# Altium footprint library adafruit.PCBLIB: 643 footprints (part 28 of 41)
Each footprint in its own frame and in the unit in brackets; x right, y up, seen from the top. Pads: shape width x height; smd on the part's side, far side on the other; paste and mask are expansions set on the pad; w line width, h text height; cw(c..) or ccw(c..) is an arc to the next point about the centre after c.
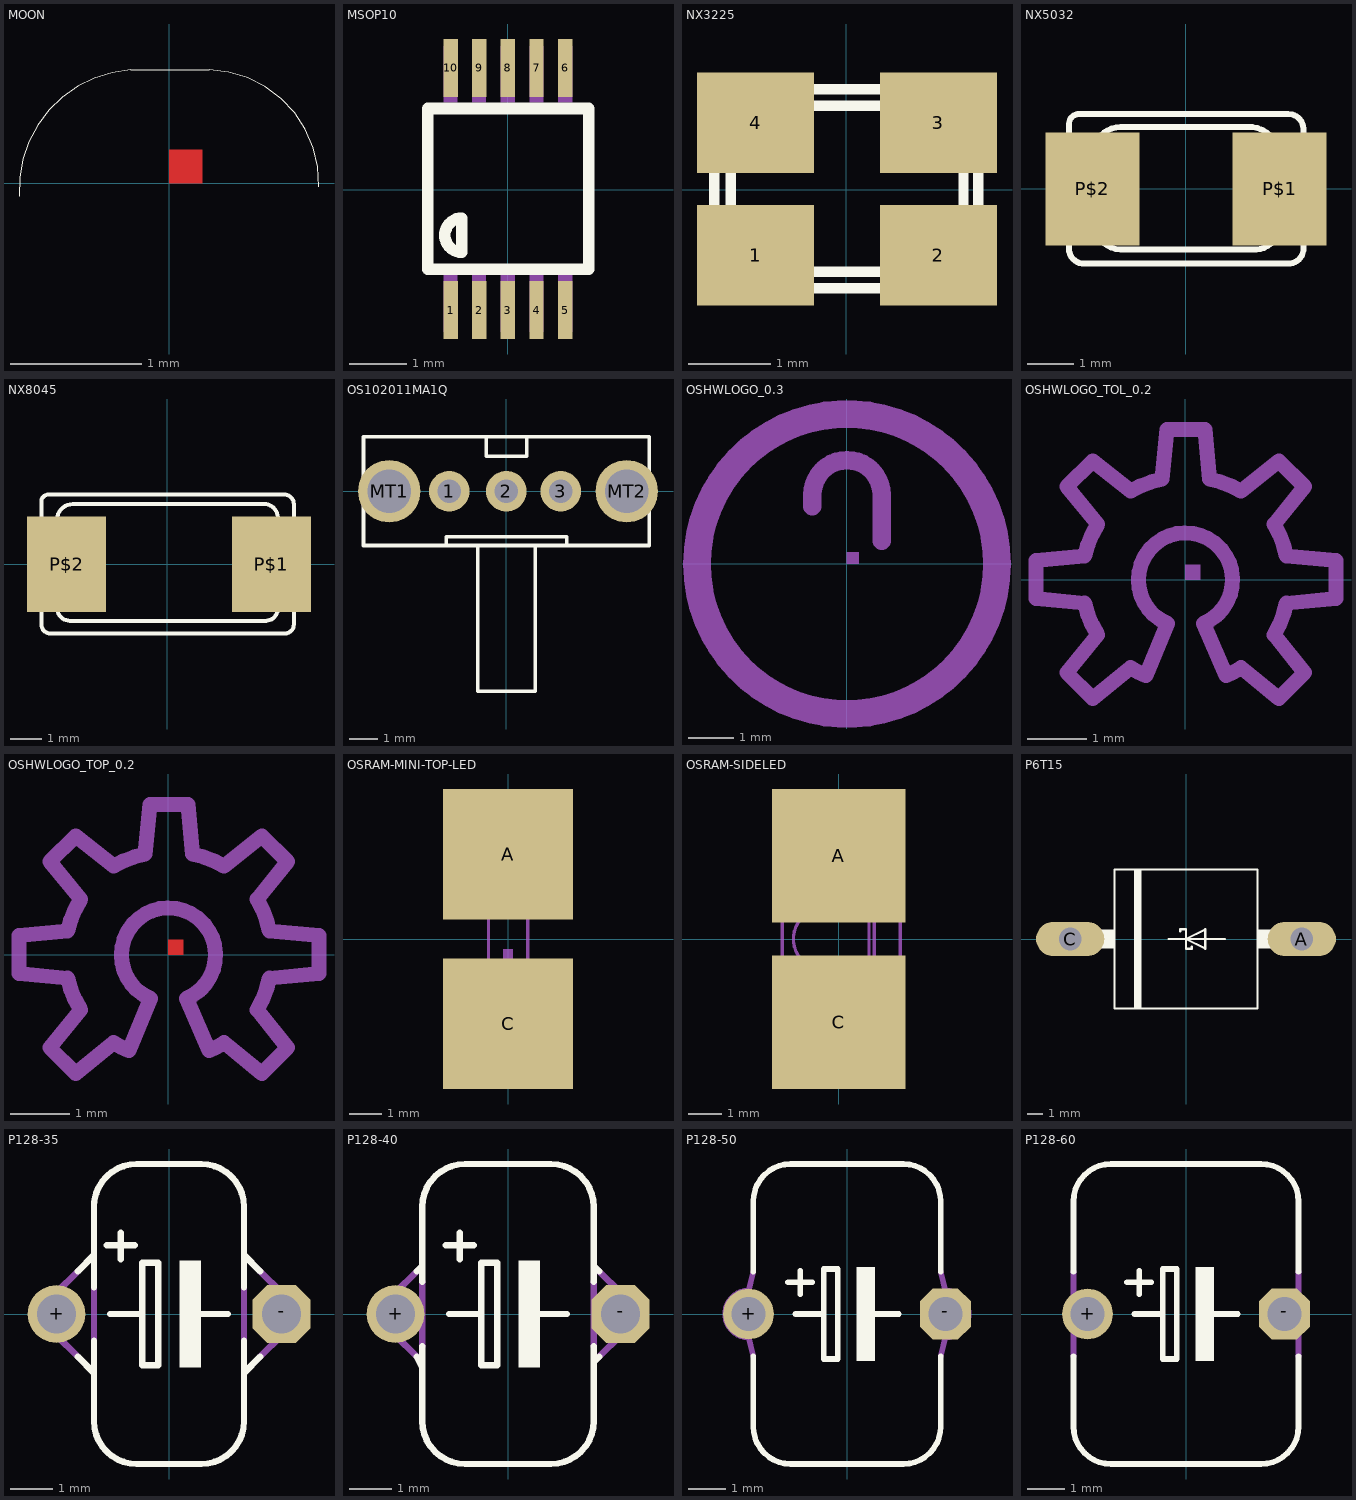
[diagram p27: the footprints below, top view; thin cyan lines are the x and y axes]

## MOON [mil]
Top Layer:
  region: 0,0 10,0 10,10 0,10
Top Overlay:
  lines w0: -45,-4 cw(c-9.25,-1.75) -11.5,34 12,34 cw(c10.99,-0.01) 45,-1

## MSOP10 [mil]
pads (10):
  rect 10x40 smd: 1(-39.37,-83.19) 2(-19.68,-83.19) 3(0,-83.19) 4(20,-83.19) 5(40,-83.19) 6(40,84) 7(20,84) 8(0,84) 9(-19.68,84) 10(-39.37,84)
Top Overlay:
  lines w8: -55.12,-55.12 56,-55.12 56,56 -55.12,56 -55.12,-55.12 ; -31.5,-43.31 cw(c-31.5,-31.5) -31.5,-19.68 -31.5,-43.31
Courtyard Bottom:
  rectangle: -44.27,-98.43 -34.43,-59.06
  rectangle: -24.58,-98.43 -14.74,-59.06
  rectangle: -4.9,-98.43 5,-59.06
  rectangle: 15,-98.43 25,-59.06
  rectangle: 35,-98.43 45,-59.06
  region: 45,99 35,99 35,60 45,60
  region: 25,99 15,99 15,60 25,60
  region: 5,99 -4.94,99 -4.94,60 5,60
  region: -14.79,99 -24.63,99 -24.63,60 -14.79,60
  region: -34.47,99 -44.31,99 -44.31,60 -34.47,60

## NX3225 [mil]
pads (4):
  rect 56x48 smd: 1(-43.31,-31.5) 2(44,-31.5) 3(44,32) 4(-43.31,32)
Top Overlay:
  lines w5: -62.99,-47.24 -62.99,48 63,48 63,-47.24 -62.99,-47.24 ; -55.12,-26.87 ccw(c-42.62,-26.87) -42.62,-39.37 43,-39.37 ccw(c43.25,-26.62) 56,-26.87 56,27 ccw(c43,27) 43,40 -42.62,40 ccw(c-42.37,27.25) -55.12,27 -55.12,-26.87

## NX5032 [mil]
pads (2):
  rect 79x95 smd: P$1(79,0) P$2(-78.74,0)
Top Overlay:
  lines w5: -98.43,-47.92 ccw(c-85.32,-49.89) -87.29,-62.99 88,-62.99 ccw(c85.96,-49.96) 99,-47.92 99,51 ccw(c86.5,50.5) 86,63 -89.62,63 ccw(c-90.02,54.6) -98.43,55 -98.43,-47.92 ; -78.74,-27.56 ccw(c-53.15,-25.59) -51.18,-51.18 56,-51.18 ccw(c57.66,-29.84) 79,-31.5 79,24 ccw(c53.49,26.49) 56,52 -55.12,52 ccw(c-54.93,28.19) -78.74,28 -78.74,-27.56

## NX8045 [mil]
pads (2):
  rect 99x119 smd: P$1(130,0) P$2(-125.98,0)
Top Overlay:
  lines w5: -157.48,-75.48 ccw(c-146.35,-75.48) -146.35,-86.61 147,-86.61 ccw(c146.93,-75.55) 158,-75.48 158,75 ccw(c146,75) 146,87 -148.68,87 ccw(c-148.58,78.1) -157.48,78 -157.48,-75.48 ; -137.8,-55.12 ccw(c-122.05,-55.12) -122.05,-70.87 123,-70.87 ccw(c122.63,-55.49) 138,-55.12 138,56 ccw(c121,58) 123,75 -118.11,75 ccw(c-118.45,55.66) -137.8,56 -137.8,-55.12

## OS102011MA1Q [mil]
pads (5):
  round 56 hole 32: 1(-78.74,0) 2(0,0) 3(75,0)
  round 86 hole 60: MT1(-161.42,0) MT2(166,0)
Top Overlay:
  lines w5: -82.68,-74.8 -39.37,-74.8 ; -82.68,-74.8 -196.85,-74.8 -196.85,75 -27.56,75 ; -82.68,-74.8 -82.68,-62.99 83,-62.99 83,-74.8 ; -39.37,-74.8 40,-74.8 ; -39.37,-74.8 -39.37,-275.59 40,-275.59 40,-74.8 ; -27.56,75 28,75 ; -27.56,75 -27.56,48 28,48 28,75 ; 28,75 197,75 197,-74.8 83,-74.8 ; 40,-74.8 83,-74.8

## OSHWLOGO_0.3 [mil]
Courtyard Bottom:
  circle w24: c0,0 r130
  region: 0,0 10,0 10,10 0,10
  lines w16: -30,50 -30,60 cw(c0,60) 0,90 cw(c0,60) 30,60 30,20

## OSHWLOGO_TOL_0.2 [mil]
Courtyard Bottom:
  region: 0,0 10,0 10,10 0,10
  lines w10: -99.26,-12.19 -99.26,13 -66.99,16 cw(c0.09,0.55) -58.3,37 -78.8,62 -61.57,79 -36.43,59 cw(c-2.05,0.35) -15.46,67 -12.19,100 13,100 16,67 cw(c2.6,0.26) 37,59 62,79 79,62 59,37 cw(c0.26,2.6) 67,16 100,13 100,-12.19 67,-15.46 cw(c0.35,-2.05) 59,-36.43 79,-61.57 62,-78.8 37,-58.3 cw(c0.61,-0.74) 27,-63.52 12,-28.87 ccw(c0.02,0.01) -31.25,0 ccw(c0,0) -11.96,-28.87 -26.31,-63.52 cw(c0.02,-0.01) -36.43,-58.3 -61.57,-78.8 -78.8,-61.57 -58.3,-36.43 cw(c0,0) -66.99,-15.46 -99.26,-12.19

## OSHWLOGO_TOP_0.2 [mil]
Top Layer:
  region: 0,0 10,0 10,10 0,10
Courtyard Bottom:
  lines w10: -99.26,-12.19 -99.26,13 -66.99,16 cw(c0.09,0.55) -58.3,37 -78.8,62 -61.57,79 -36.43,59 cw(c-2.05,0.35) -15.46,67 -12.19,100 13,100 16,67 cw(c2.6,0.26) 37,59 62,79 79,62 59,37 cw(c0.26,2.6) 67,16 100,13 100,-12.19 67,-15.46 cw(c0.35,-2.05) 59,-36.43 79,-61.57 62,-78.8 37,-58.3 cw(c0.61,-0.74) 27,-63.52 12,-28.87 ccw(c0.02,0.01) -31.25,0 ccw(c0,0) -11.96,-28.87 -26.31,-63.52 cw(c0.02,-0.01) -36.43,-58.3 -61.57,-78.8 -78.8,-61.57 -58.3,-36.43 cw(c0,0) -66.99,-15.46 -99.26,-12.19

## OSRAM-MINI-TOP-LED [mil]
pads (2):
  rect 158x158 smd: A(0,103) C(0,-102.36)
Top Overlay:
  text "A" at -25,75 h77.5
  text "C" at -25,-125 h77.5
Top Paste:
  rectangle: -19.68,24 20,56
  rectangle: -19.68,-55.12 20,-23.62
  rectangle: -17.72,26 18,54
  rectangle: -17.72,-53.15 18,-25.59
Courtyard Bottom:
  rectangle: -5.91,-23.62 6,-11.81
  lines w4: -17.72,38 -17.72,44 18,44 18,38 ; 18,-37.4 18,-43.31 -17.72,-43.31 -17.72,-35.43 -15.75,-35.43 ; -15.75,-35.43 24,-35.43 24,36 -23.62,36 -23.62,-27.56 -15.75,-35.43

## OSRAM-SIDELED [mil]
pads (2):
  rect 158x158 smd: A(0,99) C(0,-98.43)
Top Overlay:
  text "C" at 25,-125 h77.5
  text "A" at 25,100 h77.5
Top Paste:
  rectangle: -74.8,-82.68 75,-23.62
  rectangle: -74.8,24 75,83
Top Solder:
  rectangle: -82.68,-86.61 83,-15.75
  rectangle: -82.68,16 83,87
Courtyard Bottom:
  rectangle: -72.83,-80.71 -27.56,-39.37
  lines w4: 34,-47.24 -21.65,-35.43 cw(c-17.68,0.28) -21.65,36 34,48 ; 36,-80.71 36,81 ; 36,-80.71 -72.83,-80.71 -72.83,-29.53 -66.93,-29.53 -66.93,30 -72.83,30 -72.83,81 36,81 ; 36,-80.71 42,-80.71 ; 36,81 42,81 ; 42,-80.71 73,-72.83 73,73 42,81 ; 42,-80.71 42,81

## P6T15 [mil]
pads (2):
  oval 177x88.5 hole 59: A(300,0) C(-300,0)
Top Overlay:
  rectangle: -135,-180 -115,180
  rectangle: 185,-25 235,25
  rectangle: -235,-25 -185,25
  lines w6: -45,0 0,0 ; -15,20 -15,25 0,25 0,0 ; 15,-20 15,-25 0,-25 0,0 ; 100,0 0,0 ; 0,0 50,25 50,-25 0,0 ; -185,-180 -185,180 185,180 185,-180 -185,-180
Courtyard Bottom:
  lines w50: -300,0 -245,0 ; 245,0 300,0

## P128-35 [mil]
pads (2):
  round 54 hole 36: +(-105,0)
  oct 54x54 hole 36: -(105,0)
Top Overlay:
  rectangle: 10,-50 30,50
  lines w6: -85,-40 -70,-55 ; -85,40 -70,55 ; -70,-25 -70,-55 ; -70,25 -70,55 ; -70,100 cw(c-30,100) -30,140 30,140 cw(c30,100) 70,100 70,55 ; -70,105 -70,55 ; -58,64 -32,64 ; -55,0 -25,0 ; -45,51 -45,76 ; 25,0 55,0 ; 70,-25 70,-55 ; 70,25 70,55 ; 85,-40 70,-55 ; 85,40 70,55 ; -70,-55 -70,-100 ccw(c-30,-100) -30,-140 30,-140 ccw(c30,-100) 70,-100 70,-55 ; -25,0 -25,-48 -10,-48 -10,48 -25,48 -25,0
Courtyard Bottom:
  lines w6: -85,-40 -105,-20 cw(c-105,0) -105,20 -85,40 ; -70,-25 -70,25 ; 70,-25 70,25 ; 85,-40 105,-20 ccw(c105,0) 105,20 85,40

## P128-40 [mil]
pads (2):
  round 54 hole 36: +(-105,0)
  oct 54x54 hole 36: -(105,0)
Top Overlay:
  rectangle: 10,-50 30,50
  lines w6: -85,-40 -80,-50 ; -85,40 -80,45 ; -80,-30 -80,-50 ; -80,30 -80,45 ; -58,64 -32,64 ; -55,0 -25,0 ; -45,51 -45,76 ; 25,0 55,0 ; 80,-30 80,-45 ; 80,30 80,45 ; 85,-40 80,-45 ; 85,40 80,45 ; -80,-50 -80,-100 ccw(c-40,-100) -40,-140 40,-140 ccw(c40,-100) 80,-100 80,-45 ; -80,45 -80,100 cw(c-40,100) -40,140 40,140 cw(c40,100) 80,100 80,45 ; -25,0 -25,-48 -10,-48 -10,48 -25,48 -25,0
Courtyard Bottom:
  lines w6: -85,-40 -105,-20 cw(c-105,0) -105,20 -85,40 ; -80,-30 -80,30 ; 80,-30 80,30 ; 85,-40 105,-20 ccw(c105,0) 105,20 85,40

## P128-50 [mil]
pads (2):
  round 54 hole 36: +(-105,0)
  oct 54x54 hole 36: -(105,0)
Top Overlay:
  rectangle: 10,-50 30,50
  lines w6: -100,-45 -100,-120 ccw(c-60,-120) -60,-160 60,-160 ccw(c60,-120) 100,-120 100,-45 ; -100,45 -100,120 cw(c-60,120) -60,160 60,160 cw(c60,120) 100,120 100,45 ; -63,34 -37,34 ; -55,0 -25,0 ; -50,21 -50,46 ; 25,0 55,0 ; -25,0 -25,-48 -10,-48 -10,48 -25,48 -25,0
Courtyard Bottom:
  lines w6: -100,-45 -105,-25 cw(c-105,0) -105,25 -100,45 ; 100,-45 105,-25 ccw(c105,0) 105,25 100,45

## P128-60 [mil]
pads (2):
  round 54 hole 36: +(-105,0)
  oct 54x54 hole 36: -(105,0)
Top Overlay:
  rectangle: 10,-50 30,50
  lines w6: -120,-45 -120,-120 ccw(c-80,-120) -80,-160 80,-160 ccw(c80,-120) 120,-120 120,-45 ; -120,45 -120,120 cw(c-80,120) -80,160 80,160 cw(c80,120) 120,120 120,45 ; -63,34 -37,34 ; -55,0 -25,0 ; -50,21 -50,46 ; 25,0 55,0 ; -25,0 -25,-48 -10,-48 -10,48 -25,48 -25,0
Courtyard Bottom:
  lines w6: -120,-45 -120,45 ; 120,-45 120,45